# EAGLE library part PN215_NFC (library seniorDesign)
NXP USA Inc. PN5120A0HN1/C2,151 nfc chip, mother board https://media.digikey.com/pdf/Data%20Sheets/NXP%20PDFs/PN512.pdf
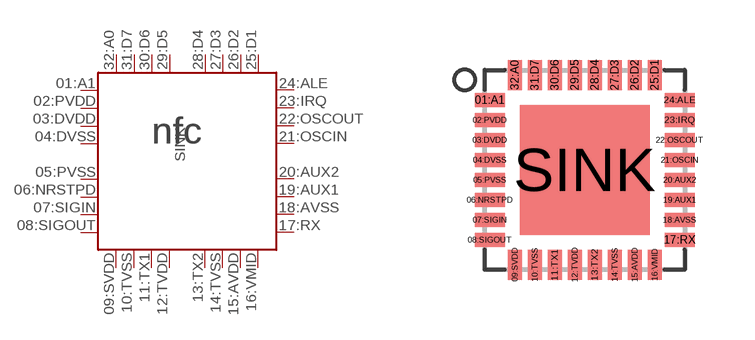
[diagram p1: symbol with the pads of PN512_32_5X5; footprint PN512_32_5X5]

Designator prefix -

## PN215_NFC  [PN512_32_5X5]
01:A1  P$1  in
02:PVDD  P$2  pwr
03:DVDD  P$3  pwr
04:DVSS  P$4  pwr
05:PVSS  P$5  pwr
06:NRSTPD  P$6  in
07:SIGIN  P$7  in
08:SIGOUT  P$8  out
09:SVDD  P$9  pwr
10:TVSS  P$10  pwr
11:TX1  P$11  out
12:TVDD  P$12  pwr
13:TX2  P$13  out
14:TVSS  P$14  pwr
15:AVDD  P$15  pwr
16:VMID  P$16  pwr
17:RX  P$17  in
18:AVSS  P$18  pwr
19:AUX1  P$19  out
20:AUX2  P$20  out
21:OSCIN  P$21  in
22:OSCOUT  P$22  out
23:IRQ  P$23  out
24:ALE  P$24  in
25:D1  P$25
26:D2  P$26
27:D3  P$27
28:D4  P$28
29:D5  P$29
30:D6  P$30
31:D7  P$31
32:A0  P$32  in
SINK  P$33  pwr

## Footprint PN512_32_5X5 (pad centres in mm)
smd 0.75 x 0.35: 01:A1 -2.375,1.75; 02:PVDD -2.375,1.25; 03:DVDD -2.375,0.75; 04:DVSS -2.375,0.25; 05:PVSS -2.375,-0.25; 06:NRSTPD -2.375,-0.75; 07:SIGIN -2.375,-1.25; 08:SIGOUT -2.375,-1.75; 17:RX 2.375,-1.75; 18:AVSS 2.375,-1.25; 19:AUX1 2.375,-0.75; 20:AUX2 2.375,-0.25; 21:OSCIN 2.375,0.25; 22:OSCOUT 2.375,0.75; 23:IRQ 2.375,1.25; 24:ALE 2.375,1.75
smd 0.35 x 0.75: 09:SVDD -1.75,-2.375; 10:TVSS -1.25,-2.375; 11:TX1 -0.75,-2.375; 12:TVDD -0.25,-2.375; 13:TX2 0.25,-2.375; 14:TVSS 0.75,-2.375; 15:AVDD 1.25,-2.375; 16:VMID 1.75,-2.375; 25:D1 1.75,2.375; 26:D2 1.25,2.375; 27:D3 0.75,2.375; 28:D4 0.25,2.375; 29:D5 -0.25,2.375; 30:D6 -0.75,2.375; 31:D7 -1.25,2.375; 32:A0 -1.75,2.375
smd 3.25 x 3.25: SINK 0,0